# Altium footprint library Connector_Amphenol.PcbLib: 4 footprints
Each footprint in its own frame and in the unit in brackets; x right, y up, seen from the top. Pads: shape width x height; smd on the part's side, far side on the other; paste and mask are expansions set on the pad; w line width, h text height; cw(c..) or ccw(c..) is an arc to the next point about the centre after c.
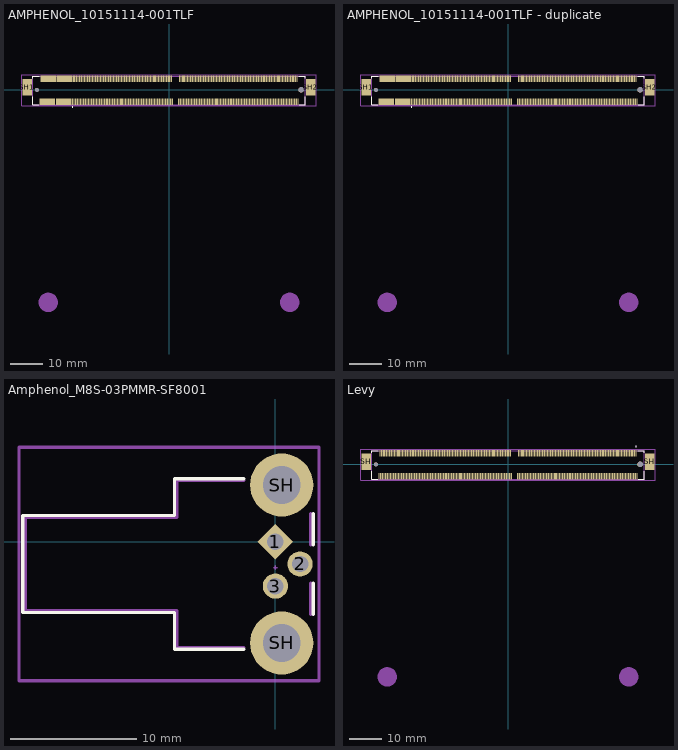
[diagram p0: the footprints below, top view; thin cyan lines are the x and y axes]

## AMPHENOL_10151114-001TLF [mm]
pads (282):
  rect 4.82x2 smd: E1(-37.75,-3.75) E2(-37.5,3.5) E3(-32.75,-3.75) E4(-32.5,3.5)
  round 1.2 hole 1.2: None(-41,0)
  round 1.7 hole 1.7: None(41,0)
  rect 0.35x2 smd: P1(-30,-3.75) P2(-29.75,3.5) P3(-29.5,-3.75) P4(-29.25,3.5) P5(-29,-3.75) P6(-28.75,3.5) P7(-28.5,-3.75) P8(-28.25,3.5) P9(-28,-3.75) P10(-27.75,3.5) P11(-27.5,-3.75) P12(-27.25,3.5) P13(-27,-3.75) P14(-26.75,3.5) P15(-26.5,-3.75) P16(-26.25,3.5) P17(-26,-3.75) P18(-25.75,3.5) P19(-25.5,-3.75) P20(-25.25,3.5) P21(-25,-3.75) P22(-24.75,3.5) P23(-24.5,-3.75) P24(-24.25,3.5) P25(-24,-3.75) P26(-23.75,3.5) P27(-23.5,-3.75) P28(-23.25,3.5) P29(-23,-3.75) P30(-22.75,3.5) P31(-22.5,-3.75) P32(-22.25,3.5) P33(-22,-3.75) P34(-21.75,3.5) P35(-21.5,-3.75) P36(-21.25,3.5) P37(-21,-3.75) P38(-20.75,3.5) P39(-20.5,-3.75) P40(-20.25,3.5) P41(-20,-3.75) P42(-19.75,3.5) P43(-19.5,-3.75) P44(-19.25,3.5) P45(-19,-3.75) P46(-18.75,3.5) P47(-18.5,-3.75) P48(-18.25,3.5) P49(-18,-3.75) P50(-17.75,3.5) P51(-17.5,-3.75) P52(-17.25,3.5) P53(-17,-3.75) P54(-16.75,3.5) P55(-16.5,-3.75) P56(-16.25,3.5) P57(-16,-3.75) P58(-15.75,3.5) P59(-15.5,-3.75) P60(-15.25,3.5) P61(-15,-3.75) P62(-14.75,3.5) P63(-14.5,-3.75) P64(-14.25,3.5) P65(-14,-3.75) P66(-13.75,3.5) P67(-13.5,-3.75) P68(-13.25,3.5) P69(-13,-3.75) P70(-12.75,3.5) P71(-12.5,-3.75) P72(-12.25,3.5) P73(-12,-3.75) P74(-11.75,3.5) P75(-11.5,-3.75) P76(-11.25,3.5) P77(-11,-3.75) P78(-10.75,3.5) P79(-10.5,-3.75) P80(-10.25,3.5) P81(-10,-3.75) P82(-9.75,3.5) P83(-9.5,-3.75) P84(-9.25,3.5) P85(-9,-3.75) P86(-8.75,3.5) P87(-8.5,-3.75) P88(-8.25,3.5) P89(-8,-3.75) P90(-7.75,3.5) P91(-7.5,-3.75) P92(-7.25,3.5) P93(-7,-3.75) P94(-6.75,3.5) P95(-6.5,-3.75) P96(-6.25,3.5) P97(-6,-3.75) P98(-5.75,3.5) P99(-5.5,-3.75) P100(-5.25,3.5) P101(-5,-3.75) P102(-4.75,3.5) P103(-4.5,-3.75) P104(-4.25,3.5) P105(-4,-3.75) P106(-3.75,3.5) P107(-3.5,-3.75) P108(-3.25,3.5) P109(-3,-3.75) P110(-2.75,3.5) P111(-2.5,-3.75) P112(-2.25,3.5) P113(-2,-3.75) P114(-1.75,3.5) P115(-1.5,-3.75) P116(-1.25,3.5) P117(-1,-3.75) P118(-0.75,3.5) P119(-0.5,-3.75) P120(-0.25,3.5) P121(0,-3.75) P122(0.25,3.5) P123(0.5,-3.75) P124(0.75,3.5) P125(1,-3.75) P133(3,-3.75) P134(3.25,3.5) P135(3.5,-3.75) P136(3.75,3.5) P137(4,-3.75) P138(4.25,3.5) P139(4.5,-3.75) P140(4.75,3.5) P141(5,-3.75) P142(5.25,3.5) P143(5.5,-3.75) P144(5.75,3.5) P145(6,-3.75) P146(6.25,3.5) P147(6.5,-3.75) P148(6.75,3.5) P149(7,-3.75) P150(7.25,3.5) P151(7.5,-3.75) P152(7.75,3.5) P153(8,-3.75) P154(8.25,3.5) P155(8.5,-3.75) P156(8.75,3.5) P157(9,-3.75) P158(9.25,3.5) P159(9.5,-3.75) P160(9.75,3.5) P161(10,-3.75) P162(10.25,3.5) P163(10.5,-3.75) P164(10.75,3.5) P165(11,-3.75) P166(11.25,3.5) P167(11.5,-3.75) P168(11.75,3.5) P169(12,-3.75) P170(12.25,3.5) P171(12.5,-3.75) P172(12.75,3.5) P173(13,-3.75) P174(13.25,3.5) P175(13.5,-3.75) P176(13.75,3.5) P177(14,-3.75) P178(14.25,3.5) P179(14.5,-3.75) P180(14.75,3.5) P181(15,-3.75) P182(15.25,3.5) P183(15.5,-3.75) P184(15.75,3.5) P185(16,-3.75) P186(16.25,3.5) P187(16.5,-3.75) P188(16.75,3.5) P189(17,-3.75) P190(17.25,3.5) P191(17.5,-3.75) P192(17.75,3.5) P193(18,-3.75) P194(18.25,3.5) P195(18.5,-3.75) P196(18.75,3.5) P197(19,-3.75) P198(19.25,3.5) P199(19.5,-3.75) P200(19.75,3.5) P201(20,-3.75) P202(20.25,3.5) P203(20.5,-3.75) P204(20.75,3.5) P205(21,-3.75) P206(21.25,3.5) P207(21.5,-3.75) P208(21.75,3.5) P209(22,-3.75) P210(22.25,3.5) P211(22.5,-3.75) P212(22.75,3.5) P213(23,-3.75) P214(23.25,3.5) P215(23.5,-3.75) P216(23.75,3.5) P217(24,-3.75) P218(24.25,3.5) P219(24.5,-3.75) P220(24.75,3.5) P221(25,-3.75) P222(25.25,3.5) P223(25.5,-3.75) P224(25.75,3.5) P225(26,-3.75) P226(26.25,3.5) P227(26.5,-3.75) P228(26.75,3.5) P229(27,-3.75) P230(27.25,3.5) P231(27.5,-3.75) P232(27.75,3.5) P233(28,-3.75) P234(28.25,3.5) P235(28.5,-3.75) P236(28.75,3.5) P237(29,-3.75) P238(29.25,3.5) P239(29.5,-3.75) P240(29.75,3.5) P241(30,-3.75) P242(30.25,3.5) P243(30.5,-3.75) P244(30.75,3.5) P245(31,-3.75) P246(31.25,3.5) P247(31.5,-3.75) P248(31.75,3.5) P249(32,-3.75) P250(32.25,3.5) P251(32.5,-3.75) P252(32.75,3.5) P253(33,-3.75) P254(33.25,3.5) P255(33.5,-3.75) P256(33.75,3.5) P257(34,-3.75) P258(34.25,3.5) P259(34.5,-3.75) P260(34.75,3.5) P261(35,-3.75) P262(35.25,3.5) P263(35.5,-3.75) P264(35.75,3.5) P265(36,-3.75) P266(36.25,3.5) P267(36.5,-3.75) P268(36.75,3.5) P269(37,-3.75) P270(37.25,3.5) P271(37.5,-3.75) P272(37.75,3.5) P273(38,-3.75) P274(38.25,3.5) P275(38.5,-3.75) P276(38.75,3.5) P277(39,-3.75) P278(39.25,3.5) P279(39.5,-3.75) P280(39.75,3.5) P281(40,-3.75)
  rect 3x5.15 smd: SH1(-44,0.75) SH2(44,0.75)
F.SilkS:
  circle w0.2: c-30,-5.3 r0.1
  lines w0.127: -42.3,-2.145 -42.3,-4.65 -40.48,-4.65 ; -42.3,3.645 -42.3,4.2 -40.23,4.2 ; 40.245,4.2 42.3,4.2 42.3,3.645 ; 40.495,-4.65 42.3,-4.65 42.3,-2.145
F.Mask:
  drawing of 278 lines, arcs and shapes, not listed
Top Assembly:
  circle w0.2: c-30,-5.3 r0.1
  lines w0.127: -42.3,-4.65 42.3,-4.65 42.3,4.2 -42.3,4.2 -42.3,-4.65
Top Courtyard:
  circle w3: c37.5,-66 r1.5
  circle w3: c-37.5,-66 r1.5
  lines w0.05: -45.75,-5 -45.75,4.75 45.75,4.75 45.75,-5 -45.75,-5
3D body "10151114-001TLF.step": height 7.9, standoff -0.45, extent -44.03,-4.604 44.03,4.246
3D body "SMARC iMX8M Plus V1.1 3D STEP Model.step": height 9.75, standoff 4.28, extent -41,-51.143 41,-1.143

## AMPHENOL_10151114-001TLF - duplicate [mm]
pads (282):
  rect 4.82x2 smd: E1(-37.75,-3.75) E2(-37.5,3.5) E3(-32.75,-3.75) E4(-32.5,3.5)
  round 1.2 hole 1.2: None(-41,0)
  round 1.7 hole 1.7: None(41,0)
  rect 0.35x2 smd: P1(39.75,3.5) P2(39.25,3.5) P3(38.75,3.5) P4(38.25,3.5) P5(37.75,3.5) P6(37.25,3.5) P7(36.75,3.5) P8(36.25,3.5) P9(35.75,3.5) P10(35.25,3.5) P11(34.75,3.5) P12(34.25,3.5) P13(33.75,3.5) P14(33.25,3.5) P15(32.75,3.5) P16(32.25,3.5) P17(31.75,3.5) P18(31.25,3.5) P19(30.75,3.5) P20(30.25,3.5) P21(29.75,3.5) P22(29.25,3.5) P23(28.75,3.5) P24(28.25,3.5) P25(27.75,3.5) P26(27.25,3.5) P27(26.75,3.5) P28(26.25,3.5) P29(25.75,3.5) P30(25.25,3.5) P31(24.75,3.5) P32(24.25,3.5) P33(23.75,3.5) P34(23.25,3.5) P35(22.75,3.5) P36(22.25,3.5) P37(21.75,3.5) P38(21.25,3.5) P39(20.75,3.5) P40(20.25,3.5) P41(19.75,3.5) P42(19.25,3.5) P43(18.75,3.5) P44(18.25,3.5) P45(17.75,3.5) P46(17.25,3.5) P47(16.75,3.5) P48(16.25,3.5) P49(15.75,3.5) P50(15.25,3.5) P51(14.75,3.5) P52(14.25,3.5) P53(13.75,3.5) P54(13.25,3.5) P55(12.75,3.5) P56(12.25,3.5) P57(11.75,3.5) P58(11.25,3.5) P59(10.75,3.5) P60(10.25,3.5) P61(9.75,3.5) P62(9.25,3.5) P63(8.75,3.5) P64(8.25,3.5) P65(7.75,3.5) P66(7.25,3.5) P67(6.75,3.5) P68(6.25,3.5) P69(5.75,3.5) P70(5.25,3.5) P71(4.75,3.5) P72(4.25,3.5) P73(3.75,3.5) P74(3.25,3.5) P75(0.75,3.5) P76(0.25,3.5) P77(-0.25,3.5) P78(-0.75,3.5) P79(-1.25,3.5) P80(-1.75,3.5) P81(-2.25,3.5) P82(-2.75,3.5) P83(-3.25,3.5) P84(-3.75,3.5) P85(-4.25,3.5) P86(-4.75,3.5) P87(-5.25,3.5) P88(-5.75,3.5) P89(-6.25,3.5) P90(-6.75,3.5) P91(-7.25,3.5) P92(-7.75,3.5) P93(-8.25,3.5) P94(-8.75,3.5) P95(-9.25,3.5) P96(-9.75,3.5) P97(-10.25,3.5) P98(-10.75,3.5) P99(-11.25,3.5) P100(-11.75,3.5) P101(-12.25,3.5) P102(-12.75,3.5) P103(-13.25,3.5) P104(-13.75,3.5) P105(-14.25,3.5) P106(-14.75,3.5) P107(-15.25,3.5) P108(-15.75,3.5) P109(-16.25,3.5) P110(-16.75,3.5) P111(-17.25,3.5) P112(-17.75,3.5) P113(-18.25,3.5) P114(-18.75,3.5) P115(-19.25,3.5) P116(-19.75,3.5) P117(-20.25,3.5) P118(-20.75,3.5) P119(-21.25,3.5) P120(-21.75,3.5) P121(-22.25,3.5) P122(-22.75,3.5) P123(-23.25,3.5) P124(-23.75,3.5) P125(-24.25,3.5) P126(-24.75,3.5) P127(-25.25,3.5) P128(-25.75,3.5) P129(-26.25,3.5) P130(-26.75,3.5) P131(-27.25,3.5) P132(-27.75,3.5) P133(-28.25,3.5) P134(-28.75,3.5) P135(-29.25,3.5) P136(-29.75,3.5) S1(40,-3.75) S2(39.5,-3.75) S3(39,-3.75) S4(38.5,-3.75) S5(38,-3.75) S6(37.5,-3.75) S7(37,-3.75) S8(36.5,-3.75) S9(36,-3.75) S10(35.5,-3.75) S11(35,-3.75) S12(34.5,-3.75) S13(34,-3.75) S14(33.5,-3.75) S15(33,-3.75) S16(32.5,-3.75) S17(32,-3.75) S18(31.5,-3.75) S19(31,-3.75) S20(30.5,-3.75) S21(30,-3.75) S22(29.5,-3.75) S23(29,-3.75) S24(28.5,-3.75) S25(28,-3.75) S26(27.5,-3.75) S27(27,-3.75) S28(26.5,-3.75) S29(26,-3.75) S30(25.5,-3.75) S31(25,-3.75) S32(24.5,-3.75) S33(24,-3.75) S34(23.5,-3.75) S35(23,-3.75) S36(22.5,-3.75) S37(22,-3.75) S38(21.5,-3.75) S39(21,-3.75) S40(20.5,-3.75) S41(20,-3.75) S42(19.5,-3.75) S43(19,-3.75) S44(18.5,-3.75) S45(18,-3.75) S46(17.5,-3.75) S47(17,-3.75) S48(16.5,-3.75) S49(16,-3.75) S50(15.5,-3.75) S51(15,-3.75) S52(14.5,-3.75) S53(14,-3.75) S54(13.5,-3.75) S55(13,-3.75) S56(12.5,-3.75) S57(12,-3.75) S58(11.5,-3.75) S59(11,-3.75) S60(10.5,-3.75) S61(10,-3.75) S62(9.5,-3.75) S63(9,-3.75) S64(8.5,-3.75) S65(8,-3.75) S66(7.5,-3.75) S67(7,-3.75) S68(6.5,-3.75) S69(6,-3.75) S70(5.5,-3.75) S71(5,-3.75) S72(4.5,-3.75) S73(4,-3.75) S74(3.5,-3.75) S75(3,-3.75) S76(1,-3.75) S77(0.5,-3.75) S78(0,-3.75) S79(-0.5,-3.75) S80(-1,-3.75) S81(-1.5,-3.75) S82(-2,-3.75) S83(-2.5,-3.75) S84(-3,-3.75) S85(-3.5,-3.75) S86(-4,-3.75) S87(-4.5,-3.75) S88(-5,-3.75) S89(-5.5,-3.75) S90(-6,-3.75) S91(-6.5,-3.75) S92(-7,-3.75) S93(-7.5,-3.75) S94(-8,-3.75) S95(-8.5,-3.75) S96(-9,-3.75) S97(-9.5,-3.75) S98(-10,-3.75) S99(-10.5,-3.75) S100(-11,-3.75) S101(-11.5,-3.75) S102(-12,-3.75) S103(-12.5,-3.75) S104(-13,-3.75) S105(-13.5,-3.75) S106(-14,-3.75) S107(-14.5,-3.75) S108(-15,-3.75) S109(-15.5,-3.75) S110(-16,-3.75) S111(-16.5,-3.75) S112(-17,-3.75) S113(-17.5,-3.75) S114(-18,-3.75) S115(-18.5,-3.75) S116(-19,-3.75) S117(-19.5,-3.75) S118(-20,-3.75) S119(-20.5,-3.75) S120(-21,-3.75) S121(-21.5,-3.75) S122(-22,-3.75) S123(-22.5,-3.75) S124(-23,-3.75) S125(-23.5,-3.75) S126(-24,-3.75) S127(-24.5,-3.75) S128(-25,-3.75) S129(-25.5,-3.75) S130(-26,-3.75) S131(-26.5,-3.75) S132(-27,-3.75) S133(-27.5,-3.75) S134(-28,-3.75) S135(-28.5,-3.75) S136(-29,-3.75) S137(-29.5,-3.75) S138(-30,-3.75)
  rect 3x5.15 smd: SH1(-44,0.75) SH2(44,0.75)
F.SilkS:
  circle w0.2: c-30,-5.3 r0.1
  lines w0.127: -42.3,-2.145 -42.3,-4.65 -40.48,-4.65 ; -42.3,3.645 -42.3,4.2 -40.23,4.2 ; 40.245,4.2 42.3,4.2 42.3,3.645 ; 40.495,-4.65 42.3,-4.65 42.3,-2.145
F.Mask:
  drawing of 278 lines, arcs and shapes, not listed
Top Assembly:
  circle w0.2: c-30,-5.3 r0.1
  lines w0.127: -42.3,-4.65 -42.3,4.2 42.3,4.2 42.3,-4.65 -42.3,-4.65
Top Courtyard:
  circle w3: c-37.5,-66 r1.5
  circle w3: c37.5,-66 r1.5
  lines w0.05: -45.75,-5 45.75,-5 45.75,4.75 -45.75,4.75 -45.75,-5
3D body "SMARC iMX8M Plus V1.1 3D STEP Model.step": height 9.75, standoff 4.28, extent -41,-51.143 41,-1.143
3D body "10151114-001TLF.step": height 7.9, standoff -0.45, extent -44.03,-4.604 44.03,4.246

## Amphenol_M8S-03PMMR-SF8001 [mm]
pads (5):
  rect 2x2 hole 1.3 rot 135: 1(0,0)
  round 2 hole 1.3: 2(1.95,-1.75) 3(0,-3.5)
  round 5 hole 3: SH(0.5,-8) SH(0.5,4.5)
F.SilkS:
  lines w0.254: -2.5,-8.5 -8,-8.5 -8,-5.6 -20,-5.6 -20,2.1 -8,2.1 -8,5 -2.5,5 ; 3,-5.75 3,-3.25 ; 3,-0.25 3,2.25
Top Component Center:
  lines w0.127: -0.127,-2.032 0.127,-2.032 ; 0,-2.159 0,-1.905
Top Assembly:
  lines w0.254: -2.5,-8.35 -7.8,-8.35 -7.8,-5.45 -19.8,-5.45 -19.8,1.95 -7.8,1.95 -7.8,4.85 -2.5,4.85 ; 2.8,-5.75 2.8,-3.25 ; 2.8,-0.25 2.8,2.25
  text "'.Designator'" at -9.647,-2.59 h1
Top Courtyard:
  lines w0.254: -20.3,-11 -20.3,7.5 3.45,7.5 3.45,-11 -20.3,-11
Top Designator:
  text ".Designator" at -16.043,-2.258 h1.52

## Levy [mm]
pads (318):
  round 1.2 hole 1.2: None(-41,0)
  round 1.7 hole 1.7: None(41,0)
  rect 0.35x2 smd: P1(39.75,3.5) P2(39.25,3.5) P3(38.75,3.5) P4(38.25,3.5) P5(37.75,3.5) P6(37.25,3.5) P7(36.75,3.5) P8(36.25,3.5) P9(35.75,3.5) P10(35.25,3.5) P11(34.75,3.5) P12(34.25,3.5) P13(33.75,3.5) P14(33.25,3.5) P15(32.75,3.5) P16(32.25,3.5) P17(31.75,3.5) P18(31.25,3.5) P19(30.75,3.5) P20(30.25,3.5) P21(29.75,3.5) P22(29.25,3.5) P23(28.75,3.5) P24(28.25,3.5) P25(27.75,3.5) P26(27.25,3.5) P27(26.75,3.5) P28(26.25,3.5) P29(25.75,3.5) P30(25.25,3.5) P31(24.75,3.5) P32(24.25,3.5) P33(23.75,3.5) P34(23.25,3.5) P35(22.75,3.5) P36(22.25,3.5) P37(21.75,3.5) P38(21.25,3.5) P39(20.75,3.5) P40(20.25,3.5) P41(19.75,3.5) P42(19.25,3.5) P43(18.75,3.5) P44(18.25,3.5) P45(17.75,3.5) P46(17.25,3.5) P47(16.75,3.5) P48(16.25,3.5) P49(15.75,3.5) P50(15.25,3.5) P51(14.75,3.5) P52(14.25,3.5) P53(13.75,3.5) P54(13.25,3.5) P55(12.75,3.5) P56(12.25,3.5) P57(11.75,3.5) P58(11.25,3.5) P59(10.75,3.5) P60(10.25,3.5) P61(9.75,3.5) P62(9.25,3.5) P63(8.75,3.5) P64(8.25,3.5) P65(7.75,3.5) P66(7.25,3.5) P67(6.75,3.5) P68(6.25,3.5) P69(5.75,3.5) P70(5.25,3.5) P71(4.75,3.5) P72(4.25,3.5) P73(3.75,3.5) P74(3.25,3.5) P75(0.75,3.5) P76(0.25,3.5) P77(-0.25,3.5) P78(-0.75,3.5) P79(-1.25,3.5) P80(-1.75,3.5) P81(-2.25,3.5) P82(-2.75,3.5) P83(-3.25,3.5) P84(-3.75,3.5) P85(-4.25,3.5) P86(-4.75,3.5) P87(-5.25,3.5) P88(-5.75,3.5) P89(-6.25,3.5) P90(-6.75,3.5) P91(-7.25,3.5) P92(-7.75,3.5) P93(-8.25,3.5) P94(-8.75,3.5) P95(-9.25,3.5) P96(-9.75,3.5) P97(-10.25,3.5) P98(-10.75,3.5) P99(-11.25,3.5) P100(-11.75,3.5) P101(-12.25,3.5) P102(-12.75,3.5) P103(-13.25,3.5) P104(-13.75,3.5) P105(-14.25,3.5) P106(-14.75,3.5) P107(-15.25,3.5) P108(-15.75,3.5) P109(-16.25,3.5) P110(-16.75,3.5) P111(-17.25,3.5) P112(-17.75,3.5) P113(-18.25,3.5) P114(-18.75,3.5) P115(-19.25,3.5) P116(-19.75,3.5) P117(-20.25,3.5) P118(-20.75,3.5) P119(-21.25,3.5) P120(-21.75,3.5) P121(-22.25,3.5) P122(-22.75,3.5) P123(-23.25,3.5) P124(-23.75,3.5) P125(-24.25,3.5) P126(-24.75,3.5) P127(-25.25,3.5) P128(-25.75,3.5) P129(-26.25,3.5) P130(-26.75,3.5) P131(-27.25,3.5) P132(-27.75,3.5) P133(-28.25,3.5) P134(-28.75,3.5) P135(-29.25,3.5) P136(-29.75,3.5) P137(-30.25,3.5) P138(-30.75,3.5) P139(-31.25,3.5) P140(-31.75,3.5) P141(-32.25,3.5) P142(-32.75,3.5) P143(-33.25,3.5) P144(-33.75,3.5) P145(-34.25,3.5) P146(-34.75,3.5) P147(-35.25,3.5) P148(-35.75,3.5) P149(-36.25,3.5) P150(-36.75,3.5) P151(-37.25,3.5) P152(-37.75,3.5) P153(-38.25,3.5) P154(-38.75,3.5) P155(-39.25,3.5) P156(-39.75,3.5) S1(40,-3.75) S2(39.5,-3.75) S3(39,-3.75) S4(38.5,-3.75) S5(38,-3.75) S6(37.5,-3.75) S7(37,-3.75) S8(36.5,-3.75) S9(36,-3.75) S10(35.5,-3.75) S11(35,-3.75) S12(34.5,-3.75) S13(34,-3.75) S14(33.5,-3.75) S15(33,-3.75) S16(32.5,-3.75) S17(32,-3.75) S18(31.5,-3.75) S19(31,-3.75) S20(30.5,-3.75) S21(30,-3.75) S22(29.5,-3.75) S23(29,-3.75) S24(28.5,-3.75) S25(28,-3.75) S26(27.5,-3.75) S27(27,-3.75) S28(26.5,-3.75) S29(26,-3.75) S30(25.5,-3.75) S31(25,-3.75) S32(24.5,-3.75) S33(24,-3.75) S34(23.5,-3.75) S35(23,-3.75) S36(22.5,-3.75) S37(22,-3.75) S38(21.5,-3.75) S39(21,-3.75) S40(20.5,-3.75) S41(20,-3.75) S42(19.5,-3.75) S43(19,-3.75) S44(18.5,-3.75) S45(18,-3.75) S46(17.5,-3.75) S47(17,-3.75) S48(16.5,-3.75) S49(16,-3.75) S50(15.5,-3.75) S51(15,-3.75) S52(14.5,-3.75) S53(14,-3.75) S54(13.5,-3.75) S55(13,-3.75) S56(12.5,-3.75) S57(12,-3.75) S58(11.5,-3.75) S59(11,-3.75) S60(10.5,-3.75) S61(10,-3.75) S62(9.5,-3.75) S63(9,-3.75) S64(8.5,-3.75) S65(8,-3.75) S66(7.5,-3.75) S67(7,-3.75) S68(6.5,-3.75) S69(6,-3.75) S70(5.5,-3.75) S71(5,-3.75) S72(4.5,-3.75) S73(4,-3.75) S74(3.5,-3.75) S75(3,-3.75) S76(1,-3.75) S77(0.5,-3.75) S78(0,-3.75) S79(-0.5,-3.75) S80(-1,-3.75) S81(-1.5,-3.75) S82(-2,-3.75) S83(-2.5,-3.75) S84(-3,-3.75) S85(-3.5,-3.75) S86(-4,-3.75) S87(-4.5,-3.75) S88(-5,-3.75) S89(-5.5,-3.75) S90(-6,-3.75) S91(-6.5,-3.75) S92(-7,-3.75) S93(-7.5,-3.75) S94(-8,-3.75) S95(-8.5,-3.75) S96(-9,-3.75) S97(-9.5,-3.75) S98(-10,-3.75) S99(-10.5,-3.75) S100(-11,-3.75) S101(-11.5,-3.75) S102(-12,-3.75) S103(-12.5,-3.75) S104(-13,-3.75) S105(-13.5,-3.75) S106(-14,-3.75) S107(-14.5,-3.75) S108(-15,-3.75) S109(-15.5,-3.75) S110(-16,-3.75) S111(-16.5,-3.75) S112(-17,-3.75) S113(-17.5,-3.75) S114(-18,-3.75) S115(-18.5,-3.75) S116(-19,-3.75) S117(-19.5,-3.75) S118(-20,-3.75) S119(-20.5,-3.75) S120(-21,-3.75) S121(-21.5,-3.75) S122(-22,-3.75) S123(-22.5,-3.75) S124(-23,-3.75) S125(-23.5,-3.75) S126(-24,-3.75) S127(-24.5,-3.75) S128(-25,-3.75) S129(-25.5,-3.75) S130(-26,-3.75) S131(-26.5,-3.75) S132(-27,-3.75) S133(-27.5,-3.75) S134(-28,-3.75) S135(-28.5,-3.75) S136(-29,-3.75) S137(-29.5,-3.75) S138(-30,-3.75) S139(-30.5,-3.75) S140(-31,-3.75) S141(-31.5,-3.75) S142(-32,-3.75) S143(-32.5,-3.75) S144(-33,-3.75) S145(-33.5,-3.75) S146(-34,-3.75) S147(-34.5,-3.75) S148(-35,-3.75) S149(-35.5,-3.75) S150(-36,-3.75) S151(-36.5,-3.75) S152(-37,-3.75) S153(-37.5,-3.75) S154(-38,-3.75) S155(-38.5,-3.75) S156(-39,-3.75) S157(-39.5,-3.75) S158(-40,-3.75)
  rect 3x5.15 smd: SH(-44,0.75) SH(44,0.75)
F.SilkS:
  circle w0.2: c39.75,5.5 r0.1
  lines w0.127: -42.3,-2.145 -42.3,-4.65 -40.48,-4.65 ; -42.3,3.645 -42.3,4.2 -40.23,4.2 ; 40.245,4.2 42.3,4.2 42.3,3.645 ; 40.495,-4.65 42.3,-4.65 42.3,-2.145
F.Mask:
  drawing of 314 lines, arcs and shapes, not listed
Top Assembly:
  circle w0.2: c39.75,5.5 r0.1
  lines w0.127: -42.3,-4.65 -42.3,4.2 42.3,4.2 42.3,-4.65 -42.3,-4.65
Top Courtyard:
  circle w3: c-37.5,-66 r1.5
  circle w3: c37.5,-66 r1.5
  lines w0.05: -45.75,-5 45.75,-5 45.75,4.75 -45.75,4.75 -45.75,-5
3D body "SMARC iMX8M Plus V1.1 3D STEP Model.step": height 9.75, standoff 4.28, extent -41,-51.143 41,-1.143
3D body "10151114-001TLF.step": height 7.9, standoff -0.45, extent -44.03,-4.604 44.03,4.246